# EAGLE library part GP1F33RT (library sharp)
FIBER OPTIC RECEIVING AND TRANSMITTING MODULE FOR DIGITAL AUDIO EQUIPMENT; TTL Interface
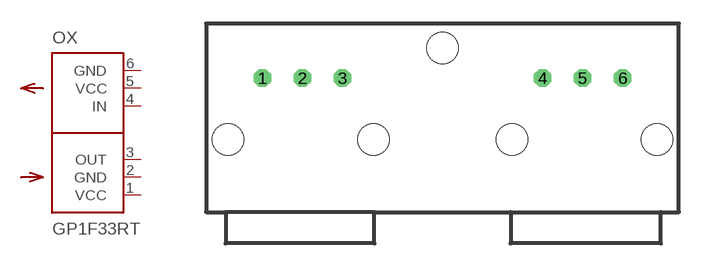
[diagram p2: symbol with the pads of GP1F33RT; footprint GP1F33RT]

Designator prefix OX

## GP1F33RT  [GP1F33RT]
1  VCC  pwr
2  GND  pwr
3  OUT  out
4  IN  in
5  VCC  pwr
6  GND  pwr

## Footprint GP1F33RT (pad centres in mm)
drill 0.6 octagon: 1 -10.16,0; 2 -7.62,0; 3 -5.08,0; 4 7.62,0; 5 10.16,0; 6 12.7,0
hole 2 at -3.116,-3.889
hole 2 at 1.27,1.905
hole 2 at 5.677,-3.889
hole 2 at 14.864,-3.889
hole 2 at -12.324,-3.889